# EAGLE library part DAC908 (library ICs)
8-Bit parallel, 165MSPS, DIGITAL-TO-ANALOG CONVERTER
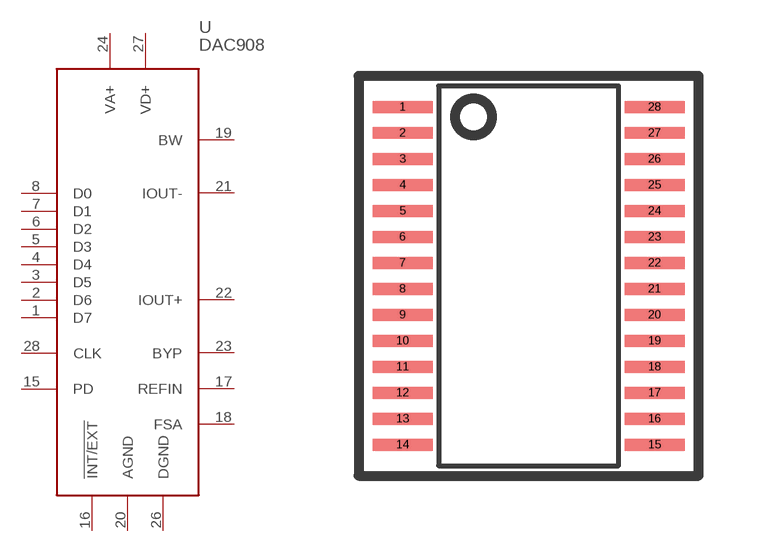
[diagram p111: symbol with the pads of SSOP28-4.5MM; footprint SSOP28-4.5MM]

Designator prefix U

## DAC908E (DIGIKEY: DAC908E-ND; PRICE_PER: 6.21; VAULE: DAC908)  [SSOP28-4.5MM]
1  D7
2  D6
3  D5
4  D4
5  D3
6  D2
7  D1
8  D0
15  PD
16  !INT/EXT
17  REFIN
18  FSA
19  BW
20  AGND
21  IOUT-
22  IOUT+
23  BYP
24  VA+
26  DGND
27  VD+
28  CLK

## Footprint SSOP28-4.5MM (pad centres in mm)
smd 1.5 x 0.3: 1 -3.15,4.225; 2 -3.15,3.575; 3 -3.15,2.925; 4 -3.15,2.275; 5 -3.15,1.625; 6 -3.15,0.975; 7 -3.15,0.325; 8 -3.15,-0.325; 9 -3.15,-0.975; 10 -3.15,-1.625; 11 -3.15,-2.275; 12 -3.15,-2.925; 13 -3.15,-3.575; 14 -3.15,-4.225; 15 3.15,-4.225; 16 3.15,-3.575; 17 3.15,-2.925; 18 3.15,-2.275; 19 3.15,-1.625; 20 3.15,-0.975; 21 3.15,-0.325; 22 3.15,0.325; 23 3.15,0.975; 24 3.15,1.625; 25 3.15,2.275; 26 3.15,2.925; 27 3.15,3.575; 28 3.15,4.225